# Altium integrated library dram_memories.IntLib: 1 symbol
Pins are listed as number, name and electrical type; pins without a type are passive.

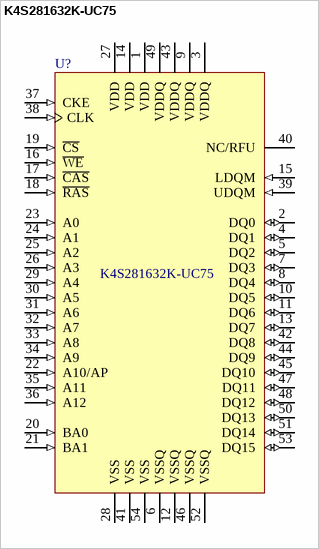
[diagram p0: symbol K4S281632K-UC75]

## K4S281632K-UC75
designator U?
128Mb Synchronous High Data Rate DRAM, 2M x 16Bit x 4 Banks, 54-Pin TSOP Pb-free; Frequency: 133MHz (max); Note: Pb-free Package (RoHS compliant); RowAddress: A0-A11; ColumnAddress: A0-A8; Published: 07-Jul-2008; DatasheetVersion: rev1.1, May-2006; PackageVersion: Aug-2004; PackageReference: 54_TSOP2_400AF; Publisher: mmakow; PackageDescription: 54-Pin Small Outline Package 0.8 mm Pitch; ComponentLink1Description: Manufacturer Link; ComponentLink1URL: http://www.samsung.com
footprint 54_TSOP2_400AF_M (SOP, 54-Leads, Body 22.5x10.16mm, Pitch 0.8mm, IPC Low Density)
pins: 1 VDD (power) "Power for the input buffers and the core logic.", 2 DQ0 (io) "Data inputs/outputs are multiplexed on the same pins.", 3 VDDQ (power) "Data Output Power; Isolated power supply for the output buffers to improve noise immunity.", 4 DQ1 (io) "Data inputs/outputs are multiplexed on the same pins.", 5 DQ2 (io) "Data inputs/outputs are multiplexed on the same pins.", 6 VSSQ (power) "Data Output Ground; Isolated ground for the output buffers to improve noise immunity.", 7 DQ3 (io) "Data inputs/outputs are multiplexed on the same pins.", 8 DQ4 (io) "Data inputs/outputs are multiplexed on the same pins.", 9 VDDQ (power) "Data Output Power; Isolated power supply for the output buffers to improve noise immunity.", 10 DQ5 (io) "Data inputs/outputs are multiplexed on the same pins.", 11 DQ6 (io) "Data inputs/outputs are multiplexed on the same pins.", 12 VSSQ (power) "Data Output Ground; Isolated ground for the output buffers to improve noise immunity.", 13 DQ7 (io) "Data inputs/outputs are multiplexed on the same pins.", 14 VDD (power) "Power for the input buffers and the core logic.", 15 LDQM (in) "Data input/output mask for DQ0-DQ7", 16 ~{WE} (in) "Write enable; Enables write operation and row precharge.", 17 ~{CAS} (in) "Column address strobe; Latches column addresses on the positive going edge of the CLK with CAS low.", 18 ~{RAS} (in) "Row address strobe; Latches row addresses on the positive going edge of the CLK with RAS low.", 19 ~{CS} (in) "Chip select; Disables or enables device operation.", 20 BA0 (in) "Bank select address", 21 BA1 (in) "Bank select address", 22 A10/AP (in) "Row/column addresses are multiplexed on the same pins.", 23 A0 (in) "Row/column addresses are multiplexed on the same pins.", 24 A1 (in) "Row/column addresses are multiplexed on the same pins.", 25 A2 (in) "Row/column addresses are multiplexed on the same pins.", 26 A3 (in) "Row/column addresses are multiplexed on the same pins.", 27 VDD (power) "Power for the input buffers and the core logic.", 28 VSS (power) "Ground for the input buffers and the core logic.", 29 A4 (in) "Row/column addresses are multiplexed on the same pins.", 30 A5 (in) "Row/column addresses are multiplexed on the same pins.", 31 A6 (in) "Row/column addresses are multiplexed on the same pins.", 32 A7 (in) "Row/column addresses are multiplexed on the same pins.", 33 A8 (in) "Row/column addresses are multiplexed on the same pins.", 34 A9 (in) "Row/column addresses are multiplexed on the same pins.", 35 A11 (in) "Row/column addresses are multiplexed on the same pins.", 36 A12 (in) "Row/column addresses are multiplexed on the same pins.", 37 CKE (in) "Clock enable; Masks system clock to freeze operation from the next clock cycle.", 38 CLK (in) "System clock; Active on the positive going edge.", 39 UDQM (in) "Data input/output mask for DQ8-DQ15", 40 NC/RFU "No connection/reserved for future use.", 41 VSS (power) "Ground for the input buffers and the core logic.", 42 DQ8 (io) "Data inputs/outputs are multiplexed on the same pins.", 43 VDDQ (power) "Data Output Power; Isolated power supply for the output buffers to improve noise immunity.", 44 DQ9 (io) "Data inputs/outputs are multiplexed on the same pins.", 45 DQ10 (io) "Data inputs/outputs are multiplexed on the same pins.", 46 VSSQ (power) "Data Output Ground; Isolated ground for the output buffers to improve noise immunity.", 47 DQ11 (io) "Data inputs/outputs are multiplexed on the same pins.", 48 DQ12 (io) "Data inputs/outputs are multiplexed on the same pins.", 49 VDDQ (power) "Data Output Power; Isolated power supply for the output buffers to improve noise immunity.", 50 DQ13 (io) "Data inputs/outputs are multiplexed on the same pins.", 51 DQ14 (io) "Data inputs/outputs are multiplexed on the same pins.", 52 VSSQ (power) "Data Output Ground; Isolated ground for the output buffers to improve noise immunity.", 53 DQ15 (io) "Data inputs/outputs are multiplexed on the same pins.", 54 VSS (power) "Ground for the input buffers and the core logic."